# Altium footprint library 901310765.PcbLib: 1 footprints
Each footprint in its own frame and in the unit in brackets; x right, y up, seen from the top. Pads: shape width x height; smd on the part's side, far side on the other; paste and mask are expansions set on the pad; w line width, h text height; cw(c..) or ccw(c..) is an arc to the next point about the centre after c.
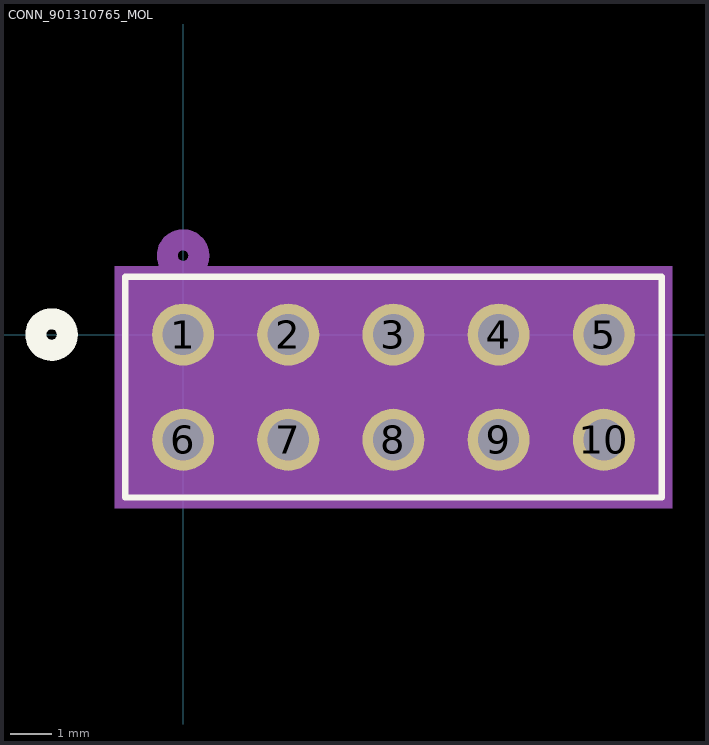
[diagram p0: the footprint, top view; thin cyan lines are the x and y axes]

## CONN_901310765_MOL [mil]
pads (10):
  round 59 hole 39 mask+0: 1(0,0) 2(100,0) 3(200,0) 4(300,0) 5(400,0) 6(0,-100) 7(100,-100) 8(200,-100) 9(300,-100) 10(400,-100)
Top Overlay:
  circle w20: c-125,0 r15
  lines w6: -55,-155 455,-155 455,55 -55,55 -55,-155
Bottom Overlay:
  circle w20: c-125,0 r15
Mechanical 5:
  region: -65,65 465,65 465,-165 -65,-165
Mechanical 13:
  circle w20: c0,75 r15
  lines w1: -50,-150 450,-150 450,50 -50,50 -50,-150
Mechanical 15:
  region: 460,60 -60,60 -60,-160 460,-160
  lines w6: -60,-160 -60,60 460,60 460,-160 -60,-160
3D body: height 10, standoff 0, extent 0,0 10,10